# Altium schematic symbol library IC.SchLib: 5 symbols
Pins are listed as number, name and electrical type; pins without a type are passive.

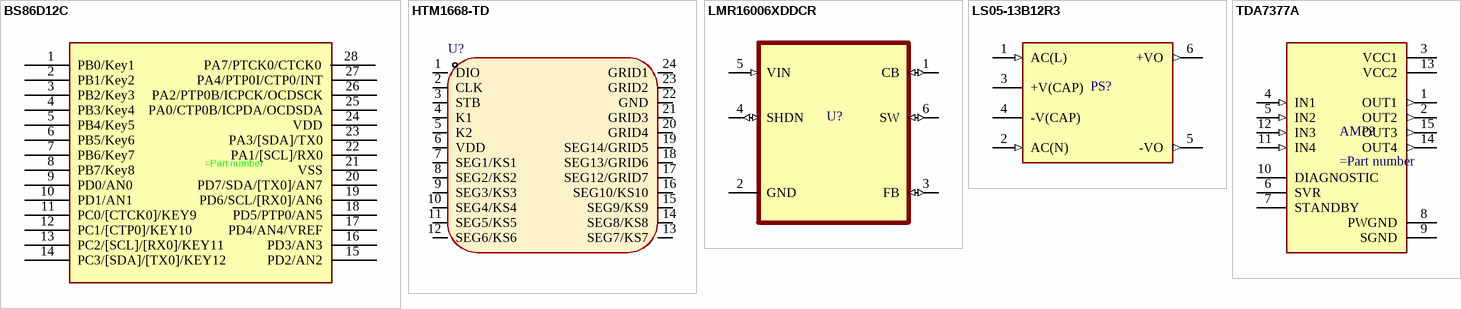
[diagram p0: symbols BS86D12C to TDA7377A]

## BS86D12C
designator U?
pins: 1 PB0/Key1, 2 PB1/Key2, 3 PB2/Key3, 4 PB3/Key4, 5 PB4/Key5, 6 PB5/Key6, 7 PB6/Key7, 8 PB7/Key8, 9 PD0/AN0, 10 PD1/AN1, 11 PC0/[CTCK0]/KEY9, 12 PC1/[CTP0]/KEY10, 13 PC2/[SCL]/[RX0]/KEY11, 14 PC3/[SDA]/[TX0]/KEY12, 15 PD2/AN2, 16 PD3/AN3, 17 PD4/AN4/VREF, 18 PD5/PTP0/AN5, 19 PD6/SCL/[RX0]/AN6, 20 PD7/SDA/[TX0]/AN7, 21 VSS, 22 PA1/[SCL]/RX0, 23 PA3/[SDA]/TX0, 24 VDD, 25 PA0/CTP0B/ICPDA/OCDSDA, 26 PA2/PTP0B/ICPCK/OCDSCK, 27 PA4/PTP0I/CTP0/INT, 28 PA7/PTCK0/CTCK0

## HTM1668-TD
designator U?
pins: 1 DIO, 2 CLK, 3 STB, 4 K1, 5 K2, 6 VDD, 7 SEG1/KS1, 8 SEG2/KS2, 9 SEG3/KS3, 10 SEG4/KS4, 11 SEG5/KS5, 12 SEG6/KS6, 13 SEG7/KS7, 14 SEG8/KS8, 15 SEG9/KS9, 16 SEG10/KS10, 17 SEG12/GRID7, 18 SEG13/GRID6, 19 SEG14/GRID5, 20 GRID4, 21 GRID3, 22 GND, 23 GRID2, 24 GRID1

## LMR16006XDDCR
designator U?
pins: 1 CB (io), 2 GND (power), 3 FB (io), 4 SHDN (io), 5 VIN (in), 6 SW (io)

## LS05-13B12R3
designator PS?
pins: 1 AC(L) (in), 2 AC(N) (in), 3 +V(CAP), 4 -V(CAP), 5 -VO (out), 6 +VO (out)

## TDA7377A
designator AMP?
pins: 1 OUT1 (out), 2 OUT2 (out), 3 VCC1 (power), 4 IN1 (in), 5 IN2 (in), 6 SVR, 7 STANDBY, 8 PWGND, 9 SGND, 10 DIAGNOSTIC, 11 IN4 (in), 12 IN3 (in), 13 VCC2 (power), 14 OUT4 (out), 15 OUT3 (out)